# Altium footprint library SOT223.PcbLib: 1 footprints
Each footprint in its own frame and in the unit in brackets; x right, y up, seen from the top. Pads: shape width x height; smd on the part's side, far side on the other; paste and mask are expansions set on the pad; w line width, h text height; cw(c..) or ccw(c..) is an arc to the next point about the centre after c.
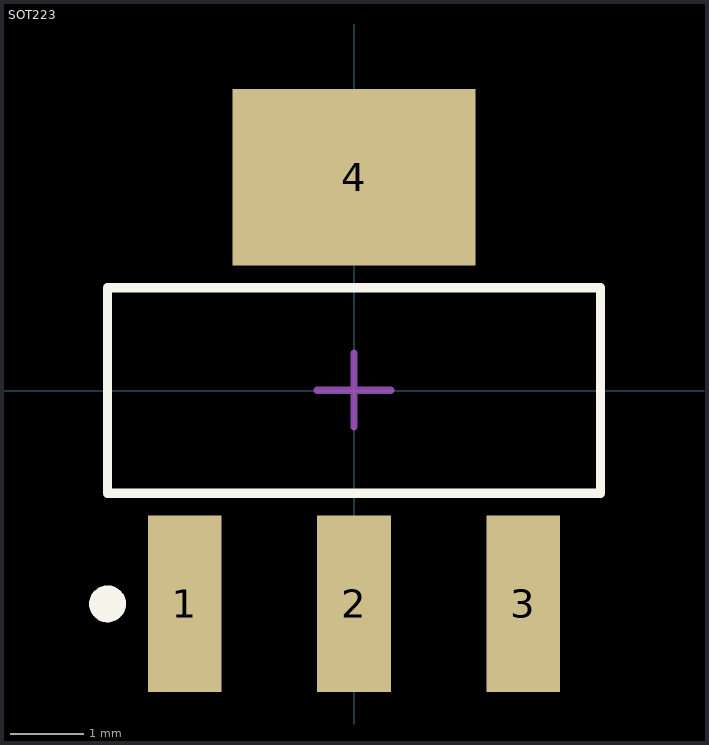
[diagram p0: the footprint, top view; thin cyan lines are the x and y axes]

## SOT223 [mm] "SOT223"
height 1.8
pads (4):
  rect 1x2.4 smd: 1(-2.3,-2.9) 2(0,-2.9) 3(2.3,-2.9)
  rect 3.3x2.4 smd: 4(0,2.9)
Top Overlay:
  circle w0.25: c-3.35,-2.9 r0.125
  lines w0.127: -3.35,-1.397 -3.35,1.397 3.35,1.397 3.35,-1.397 -3.35,-1.397 ; -3.35,-1.397 -3.35,-1.397
Mechanical 15:
  lines w0.1: -0.5,0.005 0.5,0.005 ; 0,-0.495 0,0.505
3D body: height 1.62, standoff -0.03, extent -3.251,-3.449 3.249,3.551